# Altium integrated library TI Amplifiers and Linear Operational Amplifier General Purpose.IntLib: 1448 symbols (part 13 of 51)
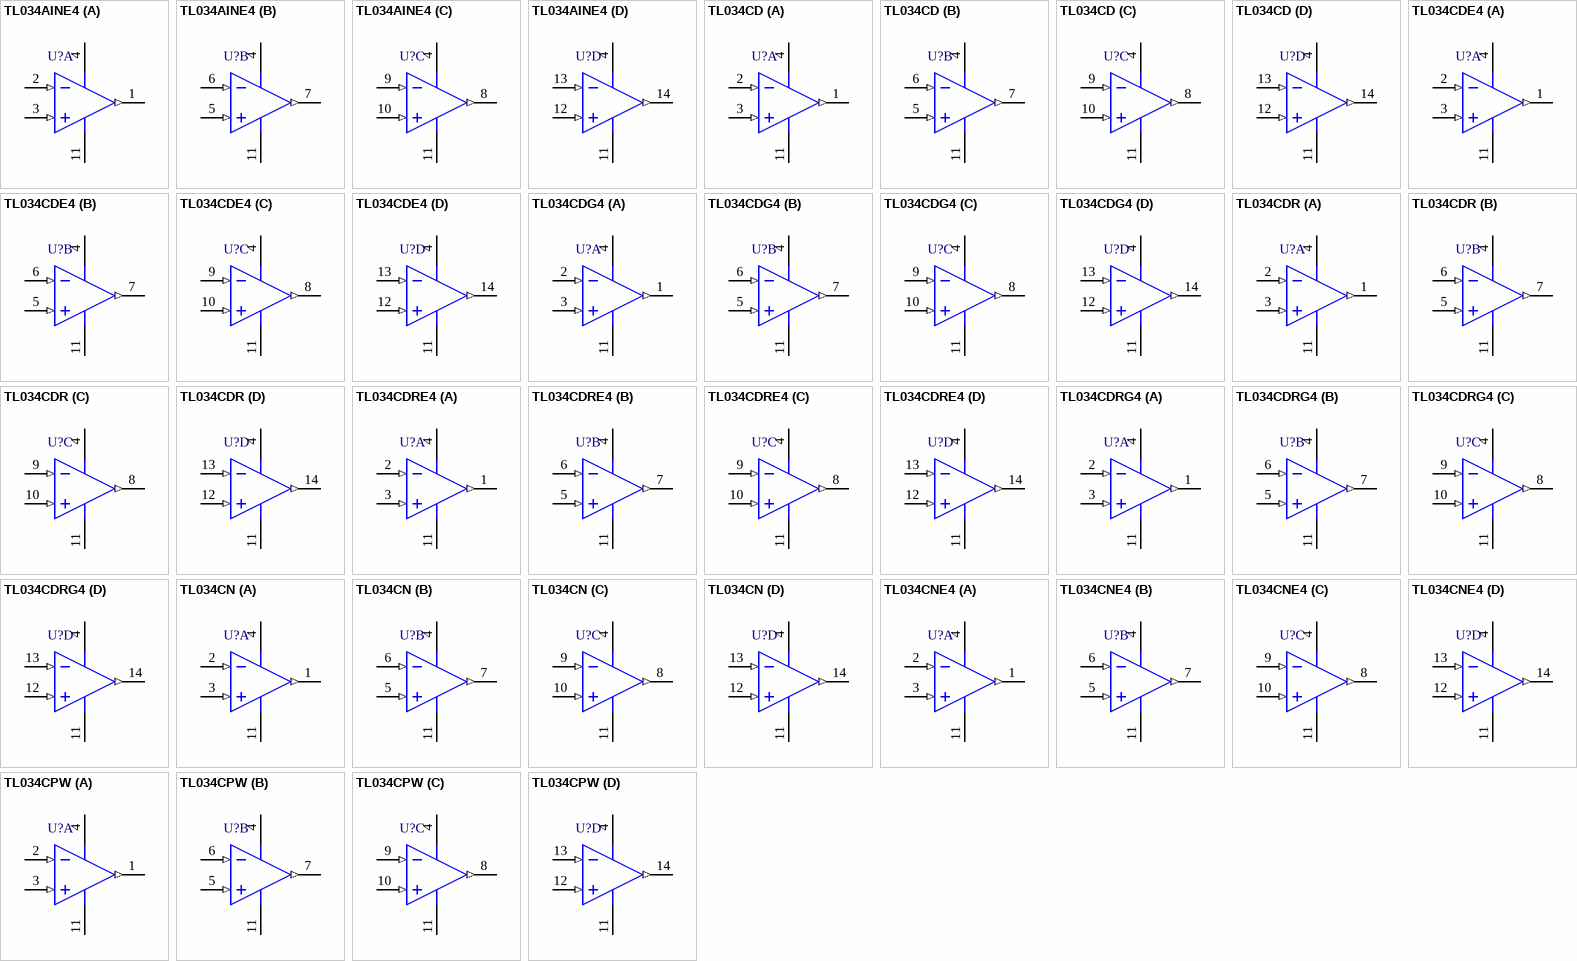
[diagram p103: symbols TL034AINE4 to TL034CPW]

## TL034AINE4
designator U?
Enhanced JFET Low-Power Low-Offset Quad Operational Amplifier, 10 to 30 V, -40 to 85 degC, 14-pin DIP (N14), Pb-Free (RoHS); Manufacturer: Texas Instruments; PartNumber: TL034AINE4; CMRR(Min)(dB): 75; GBW(Typ)(MHz): 1.1; IIB(Max)(pA): 200; Iq per channel(Max)(mA): 0.28; Number of Channels: 4; Offset Drift(Typ)(uV/C): 12; Rating: Catalog; Slew Rate(Typ)(V/us): 5.1; Sub Family: General Purpose Amplifier, High Supply Voltage Amplifier (>=30V), Low Power Amp (<=500uA); Total Supply Voltage(Max)(+5V is 5, +/-5V is 10): 30; Total Supply Voltage(Min)(+5V is 5, +/-5V is 10): 10; Vio (25C)(Max)(mV): 1.5; Vn at 1kHz(Typ)(nV/rtHz): 43; DatasheetVersion: SLOS180C; PackageVersion: 4040049/E, 12/2002; PackageReference: N14; PackageDescription: 14-Pin Plastic In-Line, Body 19.305 x 6.35 mm, Pitch 2.54 mm; Supplier 1: Digi-Key; Supplier Part Number 1: TL034AINE4-ND; Supplier 2: Mouser; Supplier Part Number 2: 595-TL034AINE4; Eco-Plan: Pb-Free (RoHS); Mounting Technology: Through Hole; Code_JEDEC: MS-001; ComponentLink1Description: Manufacturer URL; ComponentLink1URL: http://www.ti.com/; ComponentLink2Description: Datasheet; ComponentLink2URL: http://www.ti.com/lit/ds/symlink/tl034a.pdf; ComponentLink3Description: Package Specification; ComponentLink3URL: http://www.ti.com/lit/ml/mpdi002c/mpdi002c.pdf
footprint TI-N14 (DIP, 14-Leads, Body 19.305x6.35 mm, Pitch 2.54 mm)
pins on every part: 4 VCC+ (power), 11 VCC- (power)
part A pins: 1 OUT1 (out), 2 IN1- (in), 3 IN1+ (in)
part B pins: 5 IN2+ (in), 6 IN2- (in), 7 OUT2 (out)
part C pins: 8 OUT3 (out), 9 IN3- (in), 10 IN3+ (in)
part D pins: 12 IN4+ (in), 13 IN4- (in), 14 OUT4 (out)

## TL034CD
designator U?
Quad Enhanced JFET Low-Power Precision Operational Amplifier, 10 to 30 V, 0 to 70 degC, 14-pin SOIC (D14), Green (RoHS & no Sb/Br); Manufacturer: Texas Instruments; PartNumber: TL034CD; CMRR(Min)(dB): 75; GBW(Typ)(MHz): 1.1; IIB(Max)(pA): 200; Iq per channel(Max)(mA): 0.28; Number of Channels: 4; Offset Drift(Typ)(uV/C): 12; Rating: Military; Slew Rate(Typ)(V/us): 5.1; Sub Family: General Purpose Amplifier, High Supply Voltage Amplifier (>=30V), Low Power Amp (<=500uA); Total Supply Voltage(Max)(+5V is 5, +/-5V is 10): 30; Total Supply Voltage(Min)(+5V is 5, +/-5V is 10): 10; Vn at 1kHz(Typ)(nV/rtHz): 43; DatasheetVersion: SLOS180C; PackageVersion: 4040047-5/M, 06/2011; PackageReference: D14; PackageDescription: 14-Pin Plastic Small Outline, Body 8.65 x 3.90 mm, Pitch 1.27 mm; Supplier 1: Digi-Key; Supplier Part Number 1: 296-7154-5-ND; Supplier 2: Farnell; Supplier Part Number 2: 1103007; Supplier 3: Newark; Supplier Part Number 3: 36K2066; Supplier 4: Mouser; Supplier Part Number 4: 595-TL034CD; Eco-Plan: Green (RoHS & no Sb/Br); Vio (25C)(Max)(mV): 4; Mounting Technology: Surface Mount; Code_JEDEC: MS-012; ComponentLink1Description: Manufacturer URL; ComponentLink1URL: http://www.ti.com/; ComponentLink2Description: Datasheet; ComponentLink2URL: http://www.ti.com/lit/ds/symlink/tl034.pdf; ComponentLink3Description: Package Specification; ComponentLink3URL: http://www.ti.com/lit/ml/mpds177g/mpds177g.pdf
footprint TI-D14_N (SOIC, 14-Leads, Body 8.65x3.90mm, Pitch 1.27mm, IPC Medium Density)
footprint TI-D14_L (SOIC, 14-Leads, Body 8.65x3.90mm, Pitch 1.27mm, IPC High Density)
footprint TI-D14_M (SOIC, 14-Leads, Body 8.65x3.90mm, Pitch 1.27mm, IPC Low Density)
pins on every part: 4 VCC+ (power), 11 VCC- (power)
part A pins: 1 OUT1 (out), 2 IN1- (in), 3 IN1+ (in)
part B pins: 5 IN2+ (in), 6 IN2- (in), 7 OUT2 (out)
part C pins: 8 OUT3 (out), 9 IN3- (in), 10 IN3+ (in)
part D pins: 12 IN4+ (in), 13 IN4- (in), 14 OUT4 (out)

## TL034CDE4
designator U?
Quad Enhanced JFET Low-Power Precision Operational Amplifier, 10 to 30 V, 0 to 70 degC, 14-pin SOIC (D14), Green (RoHS & no Sb/Br); Manufacturer: Texas Instruments; PartNumber: TL034CDE4; CMRR(Min)(dB): 75; GBW(Typ)(MHz): 1.1; IIB(Max)(pA): 200; Iq per channel(Max)(mA): 0.28; Number of Channels: 4; Offset Drift(Typ)(uV/C): 12; Rating: Military; Slew Rate(Typ)(V/us): 5.1; Sub Family: General Purpose Amplifier, High Supply Voltage Amplifier (>=30V), Low Power Amp (<=500uA); Total Supply Voltage(Max)(+5V is 5, +/-5V is 10): 30; Total Supply Voltage(Min)(+5V is 5, +/-5V is 10): 10; Vn at 1kHz(Typ)(nV/rtHz): 43; DatasheetVersion: SLOS180C; PackageVersion: 4040047-5/M, 06/2011; PackageReference: D14; PackageDescription: 14-Pin Plastic Small Outline, Body 8.65 x 3.90 mm, Pitch 1.27 mm; Supplier 1: Digi-Key; Supplier Part Number 1: TL034CDE4-ND; Supplier 2: Mouser; Supplier Part Number 2: 595-TL034CDE4; Eco-Plan: Green (RoHS & no Sb/Br); Vio (25C)(Max)(mV): 4; Mounting Technology: Surface Mount; Code_JEDEC: MS-012; ComponentLink1Description: Manufacturer URL; ComponentLink1URL: http://www.ti.com/; ComponentLink2Description: Datasheet; ComponentLink2URL: http://www.ti.com/lit/ds/symlink/tl034.pdf; ComponentLink3Description: Package Specification; ComponentLink3URL: http://www.ti.com/lit/ml/mpds177g/mpds177g.pdf
footprint TI-D14_N (SOIC, 14-Leads, Body 8.65x3.90mm, Pitch 1.27mm, IPC Medium Density)
footprint TI-D14_L (SOIC, 14-Leads, Body 8.65x3.90mm, Pitch 1.27mm, IPC High Density)
footprint TI-D14_M (SOIC, 14-Leads, Body 8.65x3.90mm, Pitch 1.27mm, IPC Low Density)
pins on every part: 4 VCC+ (power), 11 VCC- (power)
part A pins: 1 OUT1 (out), 2 IN1- (in), 3 IN1+ (in)
part B pins: 5 IN2+ (in), 6 IN2- (in), 7 OUT2 (out)
part C pins: 8 OUT3 (out), 9 IN3- (in), 10 IN3+ (in)
part D pins: 12 IN4+ (in), 13 IN4- (in), 14 OUT4 (out)

## TL034CDG4
designator U?
Quad Enhanced JFET Low-Power Precision Operational Amplifier, 10 to 30 V, 0 to 70 degC, 14-pin SOIC (D14), Green (RoHS & no Sb/Br); Manufacturer: Texas Instruments; PartNumber: TL034CDG4; CMRR(Min)(dB): 75; GBW(Typ)(MHz): 1.1; IIB(Max)(pA): 200; Iq per channel(Max)(mA): 0.28; Number of Channels: 4; Offset Drift(Typ)(uV/C): 12; Rating: Military; Slew Rate(Typ)(V/us): 5.1; Sub Family: General Purpose Amplifier, High Supply Voltage Amplifier (>=30V), Low Power Amp (<=500uA); Total Supply Voltage(Max)(+5V is 5, +/-5V is 10): 30; Total Supply Voltage(Min)(+5V is 5, +/-5V is 10): 10; Vn at 1kHz(Typ)(nV/rtHz): 43; DatasheetVersion: SLOS180C; PackageVersion: 4040047-5/M, 06/2011; PackageReference: D14; PackageDescription: 14-Pin Plastic Small Outline, Body 8.65 x 3.90 mm, Pitch 1.27 mm; Supplier 1: Digi-Key; Supplier Part Number 1: TL034CDG4-ND; Supplier 2: Mouser; Supplier Part Number 2: 595-TL034CDG4; Eco-Plan: Green (RoHS & no Sb/Br); Vio (25C)(Max)(mV): 4; Mounting Technology: Surface Mount; Code_JEDEC: MS-012; ComponentLink1Description: Manufacturer URL; ComponentLink1URL: http://www.ti.com/; ComponentLink2Description: Datasheet; ComponentLink2URL: http://www.ti.com/lit/ds/symlink/tl034.pdf; ComponentLink3Description: Package Specification; ComponentLink3URL: http://www.ti.com/lit/ml/mpds177g/mpds177g.pdf
footprint TI-D14_N (SOIC, 14-Leads, Body 8.65x3.90mm, Pitch 1.27mm, IPC Medium Density)
footprint TI-D14_L (SOIC, 14-Leads, Body 8.65x3.90mm, Pitch 1.27mm, IPC High Density)
footprint TI-D14_M (SOIC, 14-Leads, Body 8.65x3.90mm, Pitch 1.27mm, IPC Low Density)
pins on every part: 4 VCC+ (power), 11 VCC- (power)
part A pins: 1 OUT1 (out), 2 IN1- (in), 3 IN1+ (in)
part B pins: 5 IN2+ (in), 6 IN2- (in), 7 OUT2 (out)
part C pins: 8 OUT3 (out), 9 IN3- (in), 10 IN3+ (in)
part D pins: 12 IN4+ (in), 13 IN4- (in), 14 OUT4 (out)

## TL034CDR
designator U?
Quad Enhanced JFET Low-Power Precision Operational Amplifier, 10 to 30 V, 0 to 70 degC, 14-pin SOIC (D14), Green (RoHS & no Sb/Br); Manufacturer: Texas Instruments; PartNumber: TL034CDR; CMRR(Min)(dB): 75; GBW(Typ)(MHz): 1.1; IIB(Max)(pA): 200; Iq per channel(Max)(mA): 0.28; Number of Channels: 4; Offset Drift(Typ)(uV/C): 12; Rating: Military; Slew Rate(Typ)(V/us): 5.1; Sub Family: General Purpose Amplifier, High Supply Voltage Amplifier (>=30V), Low Power Amp (<=500uA); Total Supply Voltage(Max)(+5V is 5, +/-5V is 10): 30; Total Supply Voltage(Min)(+5V is 5, +/-5V is 10): 10; Vn at 1kHz(Typ)(nV/rtHz): 43; DatasheetVersion: SLOS180C; PackageVersion: 4040047-5/M, 06/2011; PackageReference: D14; PackageDescription: 14-Pin Plastic Small Outline, Body 8.65 x 3.90 mm, Pitch 1.27 mm; Supplier 1: Digi-Key; Supplier Part Number 1: 296-14982-2-ND; Supplier 2: Digi-Key; Supplier Part Number 2: 296-14982-1-ND; Supplier 3: Digi-Key; Supplier Part Number 3: 296-14982-6-ND; Supplier 4: Mouser; Supplier Part Number 4: 595-TL034CDR; Eco-Plan: Green (RoHS & no Sb/Br); Vio (25C)(Max)(mV): 4; Mounting Technology: Surface Mount; Code_JEDEC: MS-012; ComponentLink1Description: Manufacturer URL; ComponentLink1URL: http://www.ti.com/; ComponentLink2Description: Datasheet; ComponentLink2URL: http://www.ti.com/lit/ds/symlink/tl034.pdf; ComponentLink3Description: Package Specification; ComponentLink3URL: http://www.ti.com/lit/ml/mpds177g/mpds177g.pdf
footprint TI-D14_N (SOIC, 14-Leads, Body 8.65x3.90mm, Pitch 1.27mm, IPC Medium Density)
footprint TI-D14_L (SOIC, 14-Leads, Body 8.65x3.90mm, Pitch 1.27mm, IPC High Density)
footprint TI-D14_M (SOIC, 14-Leads, Body 8.65x3.90mm, Pitch 1.27mm, IPC Low Density)
pins on every part: 4 VCC+ (power), 11 VCC- (power)
part A pins: 1 OUT1 (out), 2 IN1- (in), 3 IN1+ (in)
part B pins: 5 IN2+ (in), 6 IN2- (in), 7 OUT2 (out)
part C pins: 8 OUT3 (out), 9 IN3- (in), 10 IN3+ (in)
part D pins: 12 IN4+ (in), 13 IN4- (in), 14 OUT4 (out)

## TL034CDRE4
designator U?
Quad Enhanced JFET Low-Power Precision Operational Amplifier, 10 to 30 V, 0 to 70 degC, 14-pin SOIC (D14), Green (RoHS & no Sb/Br); Manufacturer: Texas Instruments; PartNumber: TL034CDRE4; CMRR(Min)(dB): 75; GBW(Typ)(MHz): 1.1; IIB(Max)(pA): 200; Iq per channel(Max)(mA): 0.28; Number of Channels: 4; Offset Drift(Typ)(uV/C): 12; Rating: Military; Slew Rate(Typ)(V/us): 5.1; Sub Family: General Purpose Amplifier, High Supply Voltage Amplifier (>=30V), Low Power Amp (<=500uA); Total Supply Voltage(Max)(+5V is 5, +/-5V is 10): 30; Total Supply Voltage(Min)(+5V is 5, +/-5V is 10): 10; Vn at 1kHz(Typ)(nV/rtHz): 43; DatasheetVersion: SLOS180C; PackageVersion: 4040047-5/M, 06/2011; PackageReference: D14; PackageDescription: 14-Pin Plastic Small Outline, Body 8.65 x 3.90 mm, Pitch 1.27 mm; Supplier 1: Digi-Key; Supplier Part Number 1: TL034CDRE4-ND; Supplier 2: Mouser; Supplier Part Number 2: 595-TL034CDRE4; Eco-Plan: Green (RoHS & no Sb/Br); Vio (25C)(Max)(mV): 4; Mounting Technology: Surface Mount; Code_JEDEC: MS-012; ComponentLink1Description: Manufacturer URL; ComponentLink1URL: http://www.ti.com/; ComponentLink2Description: Datasheet; ComponentLink2URL: http://www.ti.com/lit/ds/symlink/tl034.pdf; ComponentLink3Description: Package Specification; ComponentLink3URL: http://www.ti.com/lit/ml/mpds177g/mpds177g.pdf
footprint TI-D14_N (SOIC, 14-Leads, Body 8.65x3.90mm, Pitch 1.27mm, IPC Medium Density)
footprint TI-D14_L (SOIC, 14-Leads, Body 8.65x3.90mm, Pitch 1.27mm, IPC High Density)
footprint TI-D14_M (SOIC, 14-Leads, Body 8.65x3.90mm, Pitch 1.27mm, IPC Low Density)
pins on every part: 4 VCC+ (power), 11 VCC- (power)
part A pins: 1 OUT1 (out), 2 IN1- (in), 3 IN1+ (in)
part B pins: 5 IN2+ (in), 6 IN2- (in), 7 OUT2 (out)
part C pins: 8 OUT3 (out), 9 IN3- (in), 10 IN3+ (in)
part D pins: 12 IN4+ (in), 13 IN4- (in), 14 OUT4 (out)

## TL034CDRG4
designator U?
Quad Enhanced JFET Low-Power Precision Operational Amplifier, 10 to 30 V, 0 to 70 degC, 14-pin SOIC (D14), Green (RoHS & no Sb/Br); Manufacturer: Texas Instruments; PartNumber: TL034CDRG4; CMRR(Min)(dB): 75; GBW(Typ)(MHz): 1.1; IIB(Max)(pA): 200; Iq per channel(Max)(mA): 0.28; Number of Channels: 4; Offset Drift(Typ)(uV/C): 12; Rating: Military; Slew Rate(Typ)(V/us): 5.1; Sub Family: General Purpose Amplifier, High Supply Voltage Amplifier (>=30V), Low Power Amp (<=500uA); Total Supply Voltage(Max)(+5V is 5, +/-5V is 10): 30; Total Supply Voltage(Min)(+5V is 5, +/-5V is 10): 10; Vn at 1kHz(Typ)(nV/rtHz): 43; DatasheetVersion: SLOS180C; PackageVersion: 4040047-5/M, 06/2011; PackageReference: D14; PackageDescription: 14-Pin Plastic Small Outline, Body 8.65 x 3.90 mm, Pitch 1.27 mm; Supplier 1: Digi-Key; Supplier Part Number 1: TL034CDRG4-ND; Supplier 2: Mouser; Supplier Part Number 2: 595-TL034CDRG4; Eco-Plan: Green (RoHS & no Sb/Br); Vio (25C)(Max)(mV): 4; Mounting Technology: Surface Mount; Code_JEDEC: MS-012; ComponentLink1Description: Manufacturer URL; ComponentLink1URL: http://www.ti.com/; ComponentLink2Description: Datasheet; ComponentLink2URL: http://www.ti.com/lit/ds/symlink/tl034.pdf; ComponentLink3Description: Package Specification; ComponentLink3URL: http://www.ti.com/lit/ml/mpds177g/mpds177g.pdf
footprint TI-D14_N (SOIC, 14-Leads, Body 8.65x3.90mm, Pitch 1.27mm, IPC Medium Density)
footprint TI-D14_L (SOIC, 14-Leads, Body 8.65x3.90mm, Pitch 1.27mm, IPC High Density)
footprint TI-D14_M (SOIC, 14-Leads, Body 8.65x3.90mm, Pitch 1.27mm, IPC Low Density)
pins on every part: 4 VCC+ (power), 11 VCC- (power)
part A pins: 1 OUT1 (out), 2 IN1- (in), 3 IN1+ (in)
part B pins: 5 IN2+ (in), 6 IN2- (in), 7 OUT2 (out)
part C pins: 8 OUT3 (out), 9 IN3- (in), 10 IN3+ (in)
part D pins: 12 IN4+ (in), 13 IN4- (in), 14 OUT4 (out)

## TL034CN
designator U?
Quad Enhanced JFET Low-Power Precision Operational Amplifier, 10 to 30 V, 0 to 70 degC, 14-pin DIP (N14), Pb-Free (RoHS); Manufacturer: Texas Instruments; PartNumber: TL034CN; CMRR(Min)(dB): 75; GBW(Typ)(MHz): 1.1; IIB(Max)(pA): 200; Iq per channel(Max)(mA): 0.28; Number of Channels: 4; Offset Drift(Typ)(uV/C): 12; Rating: Military; Slew Rate(Typ)(V/us): 5.1; Sub Family: General Purpose Amplifier, High Supply Voltage Amplifier (>=30V), Low Power Amp (<=500uA); Total Supply Voltage(Max)(+5V is 5, +/-5V is 10): 30; Total Supply Voltage(Min)(+5V is 5, +/-5V is 10): 10; Vn at 1kHz(Typ)(nV/rtHz): 43; DatasheetVersion: SLOS180C; PackageVersion: 4040049/E, 12/2002; PackageReference: N14; PackageDescription: 14-Pin Plastic In-Line, Body 19.305 x 6.35 mm, Pitch 2.54 mm; Supplier 1: Digi-Key; Supplier Part Number 1: 296-7155-5-ND; Supplier 2: Farnell; Supplier Part Number 2: 1103008; Supplier 3: Newark; Supplier Part Number 3: 24M8326; Supplier 4: Newark; Supplier Part Number 4: 67K1269; Supplier 5: Mouser; Supplier Part Number 5: 595-TL034CN; Eco-Plan: Pb-Free (RoHS); Vio (25C)(Max)(mV): 4; Mounting Technology: Through Hole; Code_JEDEC: MS-001; ComponentLink1Description: Manufacturer URL; ComponentLink1URL: http://www.ti.com/; ComponentLink2Description: Datasheet; ComponentLink2URL: http://www.ti.com/lit/ds/symlink/tl034.pdf; ComponentLink3Description: Package Specification; ComponentLink3URL: http://www.ti.com/lit/ml/mpdi002c/mpdi002c.pdf
footprint TI-N14 (DIP, 14-Leads, Body 19.305x6.35 mm, Pitch 2.54 mm)
pins on every part: 4 VCC+ (power), 11 VCC- (power)
part A pins: 1 OUT1 (out), 2 IN1- (in), 3 IN1+ (in)
part B pins: 5 IN2+ (in), 6 IN2- (in), 7 OUT2 (out)
part C pins: 8 OUT3 (out), 9 IN3- (in), 10 IN3+ (in)
part D pins: 12 IN4+ (in), 13 IN4- (in), 14 OUT4 (out)

## TL034CNE4
designator U?
Quad Enhanced JFET Low-Power Precision Operational Amplifier, 10 to 30 V, 0 to 70 degC, 14-pin DIP (N14), Pb-Free (RoHS); Manufacturer: Texas Instruments; PartNumber: TL034CNE4; CMRR(Min)(dB): 75; GBW(Typ)(MHz): 1.1; IIB(Max)(pA): 200; Iq per channel(Max)(mA): 0.28; Number of Channels: 4; Offset Drift(Typ)(uV/C): 12; Rating: Military; Slew Rate(Typ)(V/us): 5.1; Sub Family: General Purpose Amplifier, High Supply Voltage Amplifier (>=30V), Low Power Amp (<=500uA); Total Supply Voltage(Max)(+5V is 5, +/-5V is 10): 30; Total Supply Voltage(Min)(+5V is 5, +/-5V is 10): 10; Vn at 1kHz(Typ)(nV/rtHz): 43; DatasheetVersion: SLOS180C; PackageVersion: 4040049/E, 12/2002; PackageReference: N14; PackageDescription: 14-Pin Plastic In-Line, Body 19.305 x 6.35 mm, Pitch 2.54 mm; Supplier 1: Digi-Key; Supplier Part Number 1: TL034CNE4-ND; Supplier 2: Mouser; Supplier Part Number 2: 595-TL034CNE4; Eco-Plan: Pb-Free (RoHS); Vio (25C)(Max)(mV): 4; Mounting Technology: Through Hole; Code_JEDEC: MS-001; ComponentLink1Description: Manufacturer URL; ComponentLink1URL: http://www.ti.com/; ComponentLink2Description: Datasheet; ComponentLink2URL: http://www.ti.com/lit/ds/symlink/tl034.pdf; ComponentLink3Description: Package Specification; ComponentLink3URL: http://www.ti.com/lit/ml/mpdi002c/mpdi002c.pdf
footprint TI-N14 (DIP, 14-Leads, Body 19.305x6.35 mm, Pitch 2.54 mm)
pins on every part: 4 VCC+ (power), 11 VCC- (power)
part A pins: 1 OUT1 (out), 2 IN1- (in), 3 IN1+ (in)
part B pins: 5 IN2+ (in), 6 IN2- (in), 7 OUT2 (out)
part C pins: 8 OUT3 (out), 9 IN3- (in), 10 IN3+ (in)
part D pins: 12 IN4+ (in), 13 IN4- (in), 14 OUT4 (out)

## TL034CPW
designator U?
Quad Enhanced JFET Low-Power Precision Operational Amplifier, 10 to 30 V, 0 to 70 degC, 14-pin SOP (PW14), Green (RoHS & no Sb/Br); Manufacturer: Texas Instruments; PartNumber: TL034CPW; CMRR(Min)(dB): 75; GBW(Typ)(MHz): 1.1; IIB(Max)(pA): 200; Iq per channel(Max)(mA): 0.28; Number of Channels: 4; Offset Drift(Typ)(uV/C): 12; Rating: Military; Slew Rate(Typ)(V/us): 5.1; Sub Family: General Purpose Amplifier, High Supply Voltage Amplifier (>=30V), Low Power Amp (<=500uA); Total Supply Voltage(Max)(+5V is 5, +/-5V is 10): 30; Total Supply Voltage(Min)(+5V is 5, +/-5V is 10): 10; Vn at 1kHz(Typ)(nV/rtHz): 43; DatasheetVersion: SLOS180C; PackageVersion: 4040064-3/G, 02/2011; PackageReference: PW14; PackageDescription: 14-Pin Plastic Small Outline, Body 5 x 4.4 mm, Pitch 0.65 mm; Supplier 1: Digi-Key; Supplier Part Number 1: 296-23295-5-ND; Supplier 2: Newark; Supplier Part Number 2: 02H5499; Supplier 3: Mouser; Supplier Part Number 3: 595-TL034CPW; Eco-Plan: Green (RoHS & no Sb/Br); Vio (25C)(Max)(mV): 4; Mounting Technology: Surface Mount; Code_JEDEC: MO-153; ComponentLink1Description: Manufacturer URL; ComponentLink1URL: http://www.ti.com/; ComponentLink2Description: Datasheet; ComponentLink2URL: http://www.ti.com/lit/ds/symlink/tl034.pdf; ComponentLink3Description: Package Specification; ComponentLink3URL: http://www.ti.com/litv/pdf/mpds360
footprint TI-PW14_N (SOP, 14-Leads, Body 5x4.4mm, Pitch 0.65mm, IPC Medium Density)
footprint TI-PW14_L (SOP, 14-Leads, Body 5x4.4mm, Pitch 0.65mm, IPC High Density)
footprint TI-PW14_M (SOP, 14-Leads, Body 5x4.4mm, Pitch 0.65mm, IPC Low Density)
pins on every part: 4 VCC+ (power), 11 VCC- (power)
part A pins: 1 OUT1 (out), 2 IN1- (in), 3 IN1+ (in)
part B pins: 5 IN2+ (in), 6 IN2- (in), 7 OUT2 (out)
part C pins: 8 OUT3 (out), 9 IN3- (in), 10 IN3+ (in)
part D pins: 12 IN4+ (in), 13 IN4- (in), 14 OUT4 (out)

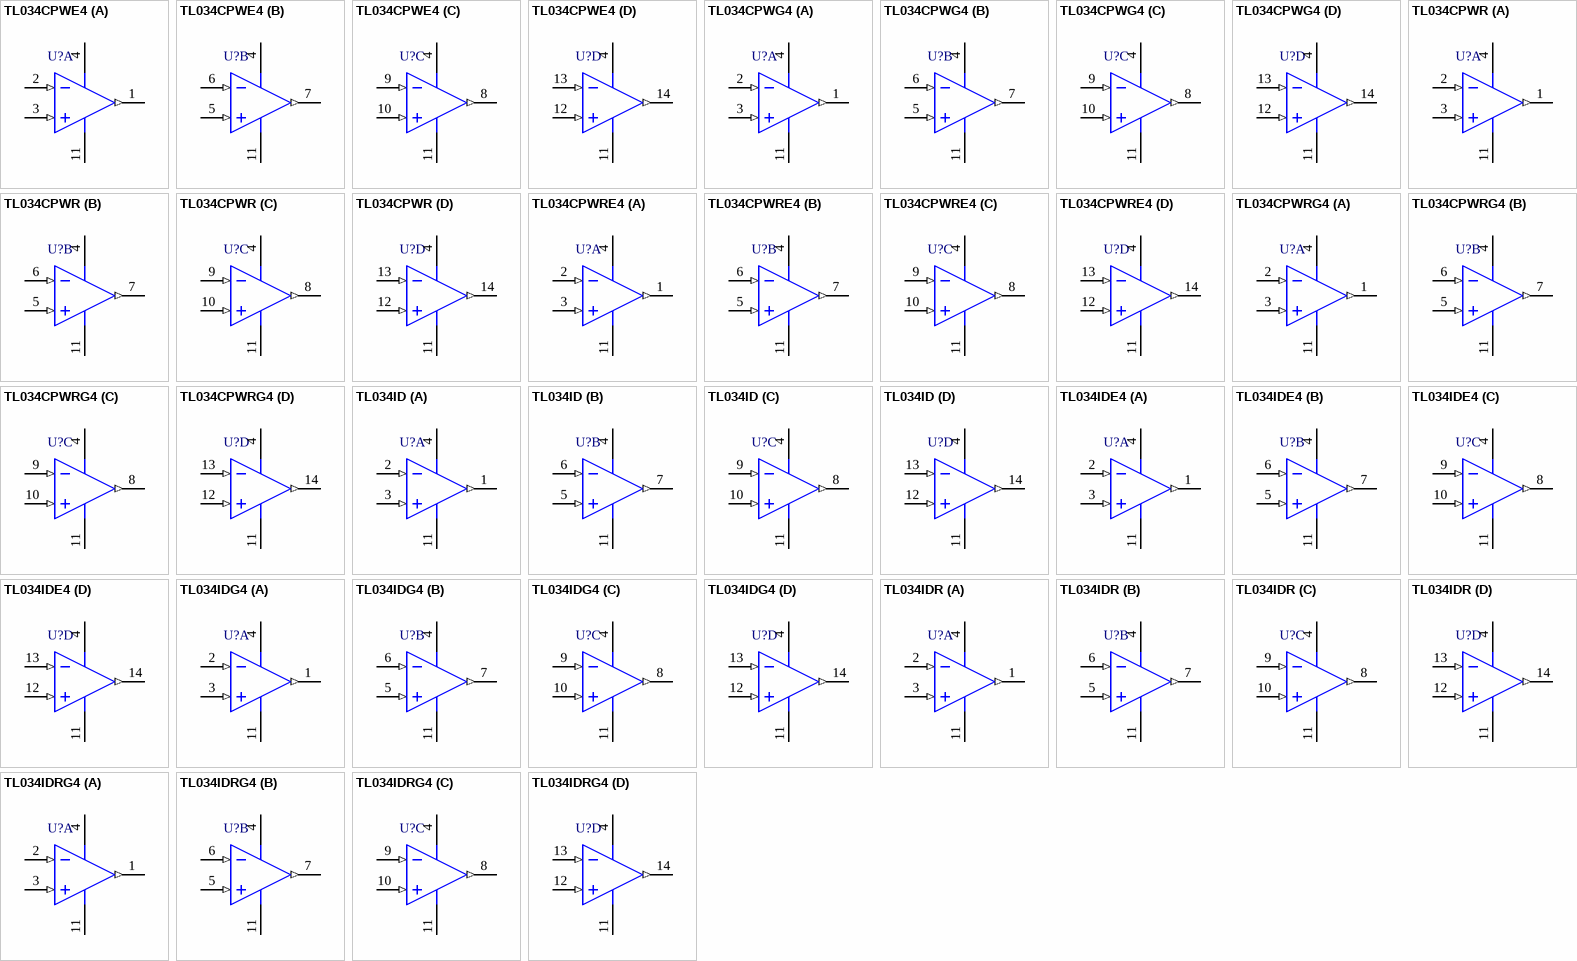
[diagram p21: symbols TL034CPWE4 to TL034IDRG4]

## TL034CPWE4
designator U?
Quad Enhanced JFET Low-Power Precision Operational Amplifier, 10 to 30 V, 0 to 70 degC, 14-pin SOP (PW14), Green (RoHS & no Sb/Br); Manufacturer: Texas Instruments; PartNumber: TL034CPWE4; CMRR(Min)(dB): 75; GBW(Typ)(MHz): 1.1; IIB(Max)(pA): 200; Iq per channel(Max)(mA): 0.28; Number of Channels: 4; Offset Drift(Typ)(uV/C): 12; Rating: Military; Slew Rate(Typ)(V/us): 5.1; Sub Family: General Purpose Amplifier, High Supply Voltage Amplifier (>=30V), Low Power Amp (<=500uA); Total Supply Voltage(Max)(+5V is 5, +/-5V is 10): 30; Total Supply Voltage(Min)(+5V is 5, +/-5V is 10): 10; Vn at 1kHz(Typ)(nV/rtHz): 43; DatasheetVersion: SLOS180C; PackageVersion: 4040064-3/G, 02/2011; PackageReference: PW14; PackageDescription: 14-Pin Plastic Small Outline, Body 5 x 4.4 mm, Pitch 0.65 mm; Supplier 1: Digi-Key; Supplier Part Number 1: TL034CPWE4-ND; Supplier 2: Mouser; Supplier Part Number 2: 595-TL034CPWE4; Eco-Plan: Green (RoHS & no Sb/Br); Vio (25C)(Max)(mV): 4; Mounting Technology: Surface Mount; Code_JEDEC: MO-153; ComponentLink1Description: Manufacturer URL; ComponentLink1URL: http://www.ti.com/; ComponentLink2Description: Datasheet; ComponentLink2URL: http://www.ti.com/lit/ds/symlink/tl034.pdf; ComponentLink3Description: Package Specification; ComponentLink3URL: http://www.ti.com/litv/pdf/mpds360
footprint TI-PW14_N (SOP, 14-Leads, Body 5x4.4mm, Pitch 0.65mm, IPC Medium Density)
footprint TI-PW14_L (SOP, 14-Leads, Body 5x4.4mm, Pitch 0.65mm, IPC High Density)
footprint TI-PW14_M (SOP, 14-Leads, Body 5x4.4mm, Pitch 0.65mm, IPC Low Density)
pins on every part: 4 VCC+ (power), 11 VCC- (power)
part A pins: 1 OUT1 (out), 2 IN1- (in), 3 IN1+ (in)
part B pins: 5 IN2+ (in), 6 IN2- (in), 7 OUT2 (out)
part C pins: 8 OUT3 (out), 9 IN3- (in), 10 IN3+ (in)
part D pins: 12 IN4+ (in), 13 IN4- (in), 14 OUT4 (out)

## TL034CPWG4
designator U?
Quad Enhanced JFET Low-Power Precision Operational Amplifier, 10 to 30 V, 0 to 70 degC, 14-pin SOP (PW14), Green (RoHS & no Sb/Br); Manufacturer: Texas Instruments; PartNumber: TL034CPWG4; CMRR(Min)(dB): 75; GBW(Typ)(MHz): 1.1; IIB(Max)(pA): 200; Iq per channel(Max)(mA): 0.28; Number of Channels: 4; Offset Drift(Typ)(uV/C): 12; Rating: Military; Slew Rate(Typ)(V/us): 5.1; Sub Family: General Purpose Amplifier, High Supply Voltage Amplifier (>=30V), Low Power Amp (<=500uA); Total Supply Voltage(Max)(+5V is 5, +/-5V is 10): 30; Total Supply Voltage(Min)(+5V is 5, +/-5V is 10): 10; Vn at 1kHz(Typ)(nV/rtHz): 43; DatasheetVersion: SLOS180C; PackageVersion: 4040064-3/G, 02/2011; PackageReference: PW14; PackageDescription: 14-Pin Plastic Small Outline, Body 5 x 4.4 mm, Pitch 0.65 mm; Supplier 1: Digi-Key; Supplier Part Number 1: TL034CPWG4-ND; Supplier 2: Mouser; Supplier Part Number 2: 595-TL034CPWG4; Eco-Plan: Green (RoHS & no Sb/Br); Vio (25C)(Max)(mV): 4; Mounting Technology: Surface Mount; Code_JEDEC: MO-153; ComponentLink1Description: Manufacturer URL; ComponentLink1URL: http://www.ti.com/; ComponentLink2Description: Datasheet; ComponentLink2URL: http://www.ti.com/lit/ds/symlink/tl034.pdf; ComponentLink3Description: Package Specification; ComponentLink3URL: http://www.ti.com/litv/pdf/mpds360
footprint TI-PW14_N (SOP, 14-Leads, Body 5x4.4mm, Pitch 0.65mm, IPC Medium Density)
footprint TI-PW14_L (SOP, 14-Leads, Body 5x4.4mm, Pitch 0.65mm, IPC High Density)
footprint TI-PW14_M (SOP, 14-Leads, Body 5x4.4mm, Pitch 0.65mm, IPC Low Density)
pins on every part: 4 VCC+ (power), 11 VCC- (power)
part A pins: 1 OUT1 (out), 2 IN1- (in), 3 IN1+ (in)
part B pins: 5 IN2+ (in), 6 IN2- (in), 7 OUT2 (out)
part C pins: 8 OUT3 (out), 9 IN3- (in), 10 IN3+ (in)
part D pins: 12 IN4+ (in), 13 IN4- (in), 14 OUT4 (out)

## TL034CPWR
designator U?
Quad Enhanced JFET Low-Power Precision Operational Amplifier, 10 to 30 V, 0 to 70 degC, 14-pin SOP (PW14), Green (RoHS & no Sb/Br); Manufacturer: Texas Instruments; PartNumber: TL034CPWR; CMRR(Min)(dB): 75; GBW(Typ)(MHz): 1.1; IIB(Max)(pA): 200; Iq per channel(Max)(mA): 0.28; Number of Channels: 4; Offset Drift(Typ)(uV/C): 12; Rating: Military; Slew Rate(Typ)(V/us): 5.1; Sub Family: General Purpose Amplifier, High Supply Voltage Amplifier (>=30V), Low Power Amp (<=500uA); Total Supply Voltage(Max)(+5V is 5, +/-5V is 10): 30; Total Supply Voltage(Min)(+5V is 5, +/-5V is 10): 10; Vn at 1kHz(Typ)(nV/rtHz): 43; DatasheetVersion: SLOS180C; PackageVersion: 4040064-3/G, 02/2011; PackageReference: PW14; PackageDescription: 14-Pin Plastic Small Outline, Body 5 x 4.4 mm, Pitch 0.65 mm; Supplier 1: Digi-Key; Supplier Part Number 1: 296-11815-2-ND; Supplier 2: Digi-Key; Supplier Part Number 2: 296-11815-6-ND; Supplier 3: Mouser; Supplier Part Number 3: 595-TL034CPWR; Eco-Plan: Green (RoHS & no Sb/Br); Vio (25C)(Max)(mV): 4; Mounting Technology: Surface Mount; Code_JEDEC: MO-153; ComponentLink1Description: Manufacturer URL; ComponentLink1URL: http://www.ti.com/; ComponentLink2Description: Datasheet; ComponentLink2URL: http://www.ti.com/lit/ds/symlink/tl034.pdf; ComponentLink3Description: Package Specification; ComponentLink3URL: http://www.ti.com/litv/pdf/mpds360
footprint TI-PW14_N (SOP, 14-Leads, Body 5x4.4mm, Pitch 0.65mm, IPC Medium Density)
footprint TI-PW14_L (SOP, 14-Leads, Body 5x4.4mm, Pitch 0.65mm, IPC High Density)
footprint TI-PW14_M (SOP, 14-Leads, Body 5x4.4mm, Pitch 0.65mm, IPC Low Density)
pins on every part: 4 VCC+ (power), 11 VCC- (power)
part A pins: 1 OUT1 (out), 2 IN1- (in), 3 IN1+ (in)
part B pins: 5 IN2+ (in), 6 IN2- (in), 7 OUT2 (out)
part C pins: 8 OUT3 (out), 9 IN3- (in), 10 IN3+ (in)
part D pins: 12 IN4+ (in), 13 IN4- (in), 14 OUT4 (out)

## TL034CPWRE4
designator U?
Quad Enhanced JFET Low-Power Precision Operational Amplifier, 10 to 30 V, 0 to 70 degC, 14-pin SOP (PW14), Green (RoHS & no Sb/Br); Manufacturer: Texas Instruments; PartNumber: TL034CPWRE4; CMRR(Min)(dB): 75; GBW(Typ)(MHz): 1.1; IIB(Max)(pA): 200; Iq per channel(Max)(mA): 0.28; Number of Channels: 4; Offset Drift(Typ)(uV/C): 12; Rating: Military; Slew Rate(Typ)(V/us): 5.1; Sub Family: General Purpose Amplifier, High Supply Voltage Amplifier (>=30V), Low Power Amp (<=500uA); Total Supply Voltage(Max)(+5V is 5, +/-5V is 10): 30; Total Supply Voltage(Min)(+5V is 5, +/-5V is 10): 10; Vn at 1kHz(Typ)(nV/rtHz): 43; DatasheetVersion: SLOS180C; PackageVersion: 4040064-3/G, 02/2011; PackageReference: PW14; PackageDescription: 14-Pin Plastic Small Outline, Body 5 x 4.4 mm, Pitch 0.65 mm; Supplier 1: Digi-Key; Supplier Part Number 1: TL034CPWRE4-ND; Supplier 2: Mouser; Supplier Part Number 2: 595-TL034CPWRE4; Eco-Plan: Green (RoHS & no Sb/Br); Vio (25C)(Max)(mV): 4; Mounting Technology: Surface Mount; Code_JEDEC: MO-153; ComponentLink1Description: Manufacturer URL; ComponentLink1URL: http://www.ti.com/; ComponentLink2Description: Datasheet; ComponentLink2URL: http://www.ti.com/lit/ds/symlink/tl034.pdf; ComponentLink3Description: Package Specification; ComponentLink3URL: http://www.ti.com/litv/pdf/mpds360
footprint TI-PW14_N (SOP, 14-Leads, Body 5x4.4mm, Pitch 0.65mm, IPC Medium Density)
footprint TI-PW14_L (SOP, 14-Leads, Body 5x4.4mm, Pitch 0.65mm, IPC High Density)
footprint TI-PW14_M (SOP, 14-Leads, Body 5x4.4mm, Pitch 0.65mm, IPC Low Density)
pins on every part: 4 VCC+ (power), 11 VCC- (power)
part A pins: 1 OUT1 (out), 2 IN1- (in), 3 IN1+ (in)
part B pins: 5 IN2+ (in), 6 IN2- (in), 7 OUT2 (out)
part C pins: 8 OUT3 (out), 9 IN3- (in), 10 IN3+ (in)
part D pins: 12 IN4+ (in), 13 IN4- (in), 14 OUT4 (out)

## TL034CPWRG4
designator U?
Quad Enhanced JFET Low-Power Precision Operational Amplifier, 10 to 30 V, 0 to 70 degC, 14-pin SOP (PW14), Green (RoHS & no Sb/Br); Manufacturer: Texas Instruments; PartNumber: TL034CPWRG4; CMRR(Min)(dB): 75; GBW(Typ)(MHz): 1.1; IIB(Max)(pA): 200; Iq per channel(Max)(mA): 0.28; Number of Channels: 4; Offset Drift(Typ)(uV/C): 12; Rating: Military; Slew Rate(Typ)(V/us): 5.1; Sub Family: General Purpose Amplifier, High Supply Voltage Amplifier (>=30V), Low Power Amp (<=500uA); Total Supply Voltage(Max)(+5V is 5, +/-5V is 10): 30; Total Supply Voltage(Min)(+5V is 5, +/-5V is 10): 10; Vn at 1kHz(Typ)(nV/rtHz): 43; DatasheetVersion: SLOS180C; PackageVersion: 4040064-3/G, 02/2011; PackageReference: PW14; PackageDescription: 14-Pin Plastic Small Outline, Body 5 x 4.4 mm, Pitch 0.65 mm; Supplier 1: Digi-Key; Supplier Part Number 1: TL034CPWRG4-ND; Supplier 2: Mouser; Supplier Part Number 2: 595-TL034CPWRG4; Eco-Plan: Green (RoHS & no Sb/Br); Vio (25C)(Max)(mV): 4; Mounting Technology: Surface Mount; Code_JEDEC: MO-153; ComponentLink1Description: Manufacturer URL; ComponentLink1URL: http://www.ti.com/; ComponentLink2Description: Datasheet; ComponentLink2URL: http://www.ti.com/lit/ds/symlink/tl034.pdf; ComponentLink3Description: Package Specification; ComponentLink3URL: http://www.ti.com/litv/pdf/mpds360
footprint TI-PW14_N (SOP, 14-Leads, Body 5x4.4mm, Pitch 0.65mm, IPC Medium Density)
footprint TI-PW14_L (SOP, 14-Leads, Body 5x4.4mm, Pitch 0.65mm, IPC High Density)
footprint TI-PW14_M (SOP, 14-Leads, Body 5x4.4mm, Pitch 0.65mm, IPC Low Density)
pins on every part: 4 VCC+ (power), 11 VCC- (power)
part A pins: 1 OUT1 (out), 2 IN1- (in), 3 IN1+ (in)
part B pins: 5 IN2+ (in), 6 IN2- (in), 7 OUT2 (out)
part C pins: 8 OUT3 (out), 9 IN3- (in), 10 IN3+ (in)
part D pins: 12 IN4+ (in), 13 IN4- (in), 14 OUT4 (out)

## TL034ID
designator U?
Quad Enhanced JFET Low-Power Precision Operational Amplifier, 10 to 30 V, -40 to 85 degC, 14-pin SOIC (D14), Green (RoHS & no Sb/Br); Manufacturer: Texas Instruments; PartNumber: TL034ID; CMRR(Min)(dB): 75; GBW(Typ)(MHz): 1.1; IIB(Max)(pA): 200; Iq per channel(Max)(mA): 0.28; Number of Channels: 4; Offset Drift(Typ)(uV/C): 12; Rating: Military; Slew Rate(Typ)(V/us): 5.1; Sub Family: General Purpose Amplifier, High Supply Voltage Amplifier (>=30V), Low Power Amp (<=500uA); Total Supply Voltage(Max)(+5V is 5, +/-5V is 10): 30; Total Supply Voltage(Min)(+5V is 5, +/-5V is 10): 10; Vn at 1kHz(Typ)(nV/rtHz): 43; DatasheetVersion: SLOS180C; PackageVersion: 4040047-5/M, 06/2011; PackageReference: D14; PackageDescription: 14-Pin Plastic Small Outline, Body 8.65 x 3.90 mm, Pitch 1.27 mm; Supplier 1: Digi-Key; Supplier Part Number 1: 296-7157-5-ND; Supplier 2: Farnell; Supplier Part Number 2: 1575667; Supplier 3: Newark; Supplier Part Number 3: 76C9045; Supplier 4: Mouser; Supplier Part Number 4: 595-TL034ID; Eco-Plan: Green (RoHS & no Sb/Br); Vio (25C)(Max)(mV): 4; Mounting Technology: Surface Mount; Code_JEDEC: MS-012; ComponentLink1Description: Manufacturer URL; ComponentLink1URL: http://www.ti.com/; ComponentLink2Description: Datasheet; ComponentLink2URL: http://www.ti.com/lit/ds/symlink/tl034.pdf; ComponentLink3Description: Package Specification; ComponentLink3URL: http://www.ti.com/lit/ml/mpds177g/mpds177g.pdf
footprint TI-D14_N (SOIC, 14-Leads, Body 8.65x3.90mm, Pitch 1.27mm, IPC Medium Density)
footprint TI-D14_L (SOIC, 14-Leads, Body 8.65x3.90mm, Pitch 1.27mm, IPC High Density)
footprint TI-D14_M (SOIC, 14-Leads, Body 8.65x3.90mm, Pitch 1.27mm, IPC Low Density)
pins on every part: 4 VCC+ (power), 11 VCC- (power)
part A pins: 1 OUT1 (out), 2 IN1- (in), 3 IN1+ (in)
part B pins: 5 IN2+ (in), 6 IN2- (in), 7 OUT2 (out)
part C pins: 8 OUT3 (out), 9 IN3- (in), 10 IN3+ (in)
part D pins: 12 IN4+ (in), 13 IN4- (in), 14 OUT4 (out)

## TL034IDE4
designator U?
Quad Enhanced JFET Low-Power Precision Operational Amplifier, 10 to 30 V, -40 to 85 degC, 14-pin SOIC (D14), Green (RoHS & no Sb/Br); Manufacturer: Texas Instruments; PartNumber: TL034IDE4; CMRR(Min)(dB): 75; GBW(Typ)(MHz): 1.1; IIB(Max)(pA): 200; Iq per channel(Max)(mA): 0.28; Number of Channels: 4; Offset Drift(Typ)(uV/C): 12; Rating: Military; Slew Rate(Typ)(V/us): 5.1; Sub Family: General Purpose Amplifier, High Supply Voltage Amplifier (>=30V), Low Power Amp (<=500uA); Total Supply Voltage(Max)(+5V is 5, +/-5V is 10): 30; Total Supply Voltage(Min)(+5V is 5, +/-5V is 10): 10; Vn at 1kHz(Typ)(nV/rtHz): 43; DatasheetVersion: SLOS180C; PackageVersion: 4040047-5/M, 06/2011; PackageReference: D14; PackageDescription: 14-Pin Plastic Small Outline, Body 8.65 x 3.90 mm, Pitch 1.27 mm; Supplier 1: Digi-Key; Supplier Part Number 1: TL034IDE4-ND; Supplier 2: Mouser; Supplier Part Number 2: 595-TL034IDE4; Eco-Plan: Green (RoHS & no Sb/Br); Vio (25C)(Max)(mV): 4; Mounting Technology: Surface Mount; Code_JEDEC: MS-012; ComponentLink1Description: Manufacturer URL; ComponentLink1URL: http://www.ti.com/; ComponentLink2Description: Datasheet; ComponentLink2URL: http://www.ti.com/lit/ds/symlink/tl034.pdf; ComponentLink3Description: Package Specification; ComponentLink3URL: http://www.ti.com/lit/ml/mpds177g/mpds177g.pdf
footprint TI-D14_N (SOIC, 14-Leads, Body 8.65x3.90mm, Pitch 1.27mm, IPC Medium Density)
footprint TI-D14_L (SOIC, 14-Leads, Body 8.65x3.90mm, Pitch 1.27mm, IPC High Density)
footprint TI-D14_M (SOIC, 14-Leads, Body 8.65x3.90mm, Pitch 1.27mm, IPC Low Density)
pins on every part: 4 VCC+ (power), 11 VCC- (power)
part A pins: 1 OUT1 (out), 2 IN1- (in), 3 IN1+ (in)
part B pins: 5 IN2+ (in), 6 IN2- (in), 7 OUT2 (out)
part C pins: 8 OUT3 (out), 9 IN3- (in), 10 IN3+ (in)
part D pins: 12 IN4+ (in), 13 IN4- (in), 14 OUT4 (out)

## TL034IDG4
designator U?
Quad Enhanced JFET Low-Power Precision Operational Amplifier, 10 to 30 V, -40 to 85 degC, 14-pin SOIC (D14), Green (RoHS & no Sb/Br); Manufacturer: Texas Instruments; PartNumber: TL034IDG4; CMRR(Min)(dB): 75; GBW(Typ)(MHz): 1.1; IIB(Max)(pA): 200; Iq per channel(Max)(mA): 0.28; Number of Channels: 4; Offset Drift(Typ)(uV/C): 12; Rating: Military; Slew Rate(Typ)(V/us): 5.1; Sub Family: General Purpose Amplifier, High Supply Voltage Amplifier (>=30V), Low Power Amp (<=500uA); Total Supply Voltage(Max)(+5V is 5, +/-5V is 10): 30; Total Supply Voltage(Min)(+5V is 5, +/-5V is 10): 10; Vn at 1kHz(Typ)(nV/rtHz): 43; DatasheetVersion: SLOS180C; PackageVersion: 4040047-5/M, 06/2011; PackageReference: D14; PackageDescription: 14-Pin Plastic Small Outline, Body 8.65 x 3.90 mm, Pitch 1.27 mm; Supplier 1: Digi-Key; Supplier Part Number 1: TL034IDG4-ND; Supplier 2: Mouser; Supplier Part Number 2: 595-TL034IDG4; Eco-Plan: Green (RoHS & no Sb/Br); Vio (25C)(Max)(mV): 4; Mounting Technology: Surface Mount; Code_JEDEC: MS-012; ComponentLink1Description: Manufacturer URL; ComponentLink1URL: http://www.ti.com/; ComponentLink2Description: Datasheet; ComponentLink2URL: http://www.ti.com/lit/ds/symlink/tl034.pdf; ComponentLink3Description: Package Specification; ComponentLink3URL: http://www.ti.com/lit/ml/mpds177g/mpds177g.pdf
footprint TI-D14_N (SOIC, 14-Leads, Body 8.65x3.90mm, Pitch 1.27mm, IPC Medium Density)
footprint TI-D14_L (SOIC, 14-Leads, Body 8.65x3.90mm, Pitch 1.27mm, IPC High Density)
footprint TI-D14_M (SOIC, 14-Leads, Body 8.65x3.90mm, Pitch 1.27mm, IPC Low Density)
pins on every part: 4 VCC+ (power), 11 VCC- (power)
part A pins: 1 OUT1 (out), 2 IN1- (in), 3 IN1+ (in)
part B pins: 5 IN2+ (in), 6 IN2- (in), 7 OUT2 (out)
part C pins: 8 OUT3 (out), 9 IN3- (in), 10 IN3+ (in)
part D pins: 12 IN4+ (in), 13 IN4- (in), 14 OUT4 (out)

## TL034IDR
designator U?
Quad Enhanced JFET Low-Power Precision Operational Amplifier, 10 to 30 V, -40 to 85 degC, 14-pin SOIC (D14), Green (RoHS & no Sb/Br); Manufacturer: Texas Instruments; PartNumber: TL034IDR; CMRR(Min)(dB): 75; GBW(Typ)(MHz): 1.1; IIB(Max)(pA): 200; Iq per channel(Max)(mA): 0.28; Number of Channels: 4; Offset Drift(Typ)(uV/C): 12; Rating: Military; Slew Rate(Typ)(V/us): 5.1; Sub Family: General Purpose Amplifier, High Supply Voltage Amplifier (>=30V), Low Power Amp (<=500uA); Total Supply Voltage(Max)(+5V is 5, +/-5V is 10): 30; Total Supply Voltage(Min)(+5V is 5, +/-5V is 10): 10; Vn at 1kHz(Typ)(nV/rtHz): 43; DatasheetVersion: SLOS180C; PackageVersion: 4040047-5/M, 06/2011; PackageReference: D14; PackageDescription: 14-Pin Plastic Small Outline, Body 8.65 x 3.90 mm, Pitch 1.27 mm; Supplier 1: Digi-Key; Supplier Part Number 1: 296-29864-2-ND; Supplier 2: Digi-Key; Supplier Part Number 2: 296-29864-1-ND; Supplier 3: Digi-Key; Supplier Part Number 3: 296-29864-6-ND; Supplier 4: Mouser; Supplier Part Number 4: 595-TL034IDR; Eco-Plan: Green (RoHS & no Sb/Br); Vio (25C)(Max)(mV): 4; Mounting Technology: Surface Mount; Code_JEDEC: MS-012; ComponentLink1Description: Manufacturer URL; ComponentLink1URL: http://www.ti.com/; ComponentLink2Description: Datasheet; ComponentLink2URL: http://www.ti.com/lit/ds/symlink/tl034.pdf; ComponentLink3Description: Package Specification; ComponentLink3URL: http://www.ti.com/lit/ml/mpds177g/mpds177g.pdf
footprint TI-D14_N (SOIC, 14-Leads, Body 8.65x3.90mm, Pitch 1.27mm, IPC Medium Density)
footprint TI-D14_L (SOIC, 14-Leads, Body 8.65x3.90mm, Pitch 1.27mm, IPC High Density)
footprint TI-D14_M (SOIC, 14-Leads, Body 8.65x3.90mm, Pitch 1.27mm, IPC Low Density)
pins on every part: 4 VCC+ (power), 11 VCC- (power)
part A pins: 1 OUT1 (out), 2 IN1- (in), 3 IN1+ (in)
part B pins: 5 IN2+ (in), 6 IN2- (in), 7 OUT2 (out)
part C pins: 8 OUT3 (out), 9 IN3- (in), 10 IN3+ (in)
part D pins: 12 IN4+ (in), 13 IN4- (in), 14 OUT4 (out)

## TL034IDRG4
designator U?
Quad Enhanced JFET Low-Power Precision Operational Amplifier, 10 to 30 V, -40 to 85 degC, 14-pin SOIC (D14), Green (RoHS & no Sb/Br); Manufacturer: Texas Instruments; PartNumber: TL034IDRG4; CMRR(Min)(dB): 75; GBW(Typ)(MHz): 1.1; IIB(Max)(pA): 200; Iq per channel(Max)(mA): 0.28; Number of Channels: 4; Offset Drift(Typ)(uV/C): 12; Rating: Military; Slew Rate(Typ)(V/us): 5.1; Sub Family: General Purpose Amplifier, High Supply Voltage Amplifier (>=30V), Low Power Amp (<=500uA); Total Supply Voltage(Max)(+5V is 5, +/-5V is 10): 30; Total Supply Voltage(Min)(+5V is 5, +/-5V is 10): 10; Vn at 1kHz(Typ)(nV/rtHz): 43; DatasheetVersion: SLOS180C; PackageVersion: 4040047-5/M, 06/2011; PackageReference: D14; PackageDescription: 14-Pin Plastic Small Outline, Body 8.65 x 3.90 mm, Pitch 1.27 mm; Supplier 1: Digi-Key; Supplier Part Number 1: TL034IDRG4-ND; Supplier 2: Mouser; Supplier Part Number 2: 595-TL034IDRG4; Eco-Plan: Green (RoHS & no Sb/Br); Vio (25C)(Max)(mV): 4; Mounting Technology: Surface Mount; Code_JEDEC: MS-012; ComponentLink1Description: Manufacturer URL; ComponentLink1URL: http://www.ti.com/; ComponentLink2Description: Datasheet; ComponentLink2URL: http://www.ti.com/lit/ds/symlink/tl034.pdf; ComponentLink3Description: Package Specification; ComponentLink3URL: http://www.ti.com/lit/ml/mpds177g/mpds177g.pdf
footprint TI-D14_N (SOIC, 14-Leads, Body 8.65x3.90mm, Pitch 1.27mm, IPC Medium Density)
footprint TI-D14_L (SOIC, 14-Leads, Body 8.65x3.90mm, Pitch 1.27mm, IPC High Density)
footprint TI-D14_M (SOIC, 14-Leads, Body 8.65x3.90mm, Pitch 1.27mm, IPC Low Density)
pins on every part: 4 VCC+ (power), 11 VCC- (power)
part A pins: 1 OUT1 (out), 2 IN1- (in), 3 IN1+ (in)
part B pins: 5 IN2+ (in), 6 IN2- (in), 7 OUT2 (out)
part C pins: 8 OUT3 (out), 9 IN3- (in), 10 IN3+ (in)
part D pins: 12 IN4+ (in), 13 IN4- (in), 14 OUT4 (out)

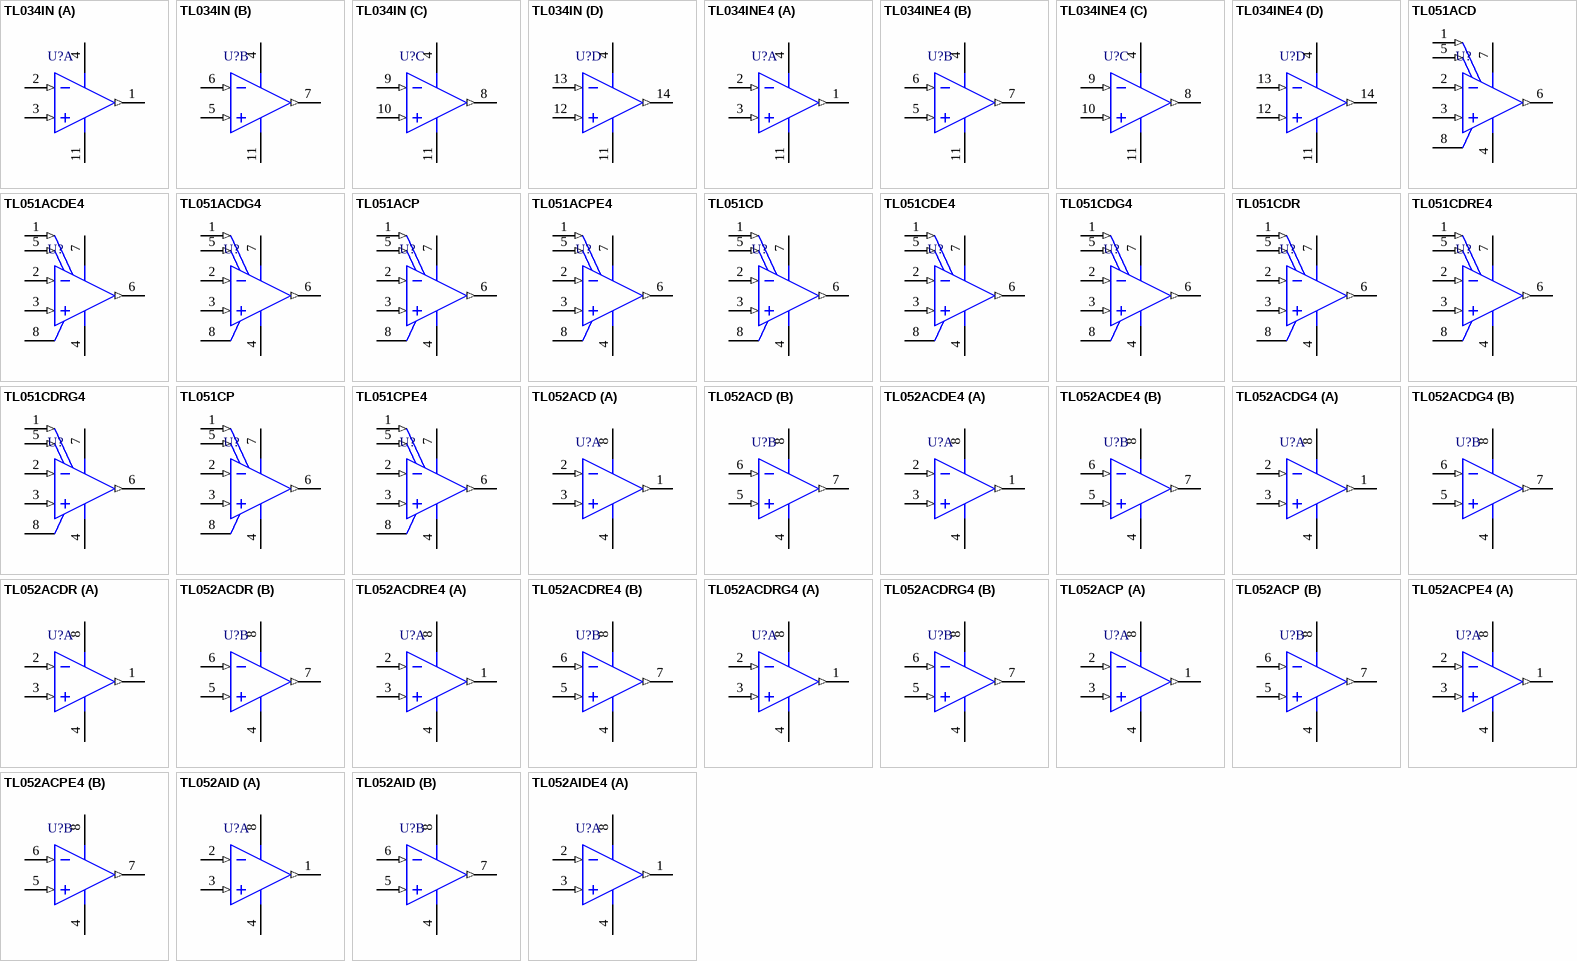
[diagram p22: symbols TL034IN to TL052AIDE4]

## TL034IN
designator U?
Quad Enhanced JFET Low-Power Precision Operational Amplifier, 10 to 30 V, -40 to 85 degC, 14-pin DIP (N14), Pb-Free (RoHS); Manufacturer: Texas Instruments; PartNumber: TL034IN; CMRR(Min)(dB): 75; GBW(Typ)(MHz): 1.1; IIB(Max)(pA): 200; Iq per channel(Max)(mA): 0.28; Number of Channels: 4; Offset Drift(Typ)(uV/C): 12; Rating: Military; Slew Rate(Typ)(V/us): 5.1; Sub Family: General Purpose Amplifier, High Supply Voltage Amplifier (>=30V), Low Power Amp (<=500uA); Total Supply Voltage(Max)(+5V is 5, +/-5V is 10): 30; Total Supply Voltage(Min)(+5V is 5, +/-5V is 10): 10; Vn at 1kHz(Typ)(nV/rtHz): 43; DatasheetVersion: SLOS180C; PackageVersion: 4040049/E, 12/2002; PackageReference: N14; PackageDescription: 14-Pin Plastic In-Line, Body 19.305 x 6.35 mm, Pitch 2.54 mm; Supplier 1: Digi-Key; Supplier Part Number 1: 296-34249-5-ND; Supplier 2: Farnell; Supplier Part Number 2: 1459675; Supplier 3: Mouser; Supplier Part Number 3: 595-TL034IN; Eco-Plan: Pb-Free (RoHS); Vio (25C)(Max)(mV): 4; Mounting Technology: Through Hole; Code_JEDEC: MS-001; ComponentLink1Description: Manufacturer URL; ComponentLink1URL: http://www.ti.com/; ComponentLink2Description: Datasheet; ComponentLink2URL: http://www.ti.com/lit/ds/symlink/tl034.pdf; ComponentLink3Description: Package Specification; ComponentLink3URL: http://www.ti.com/lit/ml/mpdi002c/mpdi002c.pdf
footprint TI-N14 (DIP, 14-Leads, Body 19.305x6.35 mm, Pitch 2.54 mm)
pins on every part: 4 VCC+ (power), 11 VCC- (power)
part A pins: 1 OUT1 (out), 2 IN1- (in), 3 IN1+ (in)
part B pins: 5 IN2+ (in), 6 IN2- (in), 7 OUT2 (out)
part C pins: 8 OUT3 (out), 9 IN3- (in), 10 IN3+ (in)
part D pins: 12 IN4+ (in), 13 IN4- (in), 14 OUT4 (out)

## TL034INE4
designator U?
Quad Enhanced JFET Low-Power Precision Operational Amplifier, 10 to 30 V, -40 to 85 degC, 14-pin DIP (N14), Pb-Free (RoHS); Manufacturer: Texas Instruments; PartNumber: TL034INE4; CMRR(Min)(dB): 75; GBW(Typ)(MHz): 1.1; IIB(Max)(pA): 200; Iq per channel(Max)(mA): 0.28; Number of Channels: 4; Offset Drift(Typ)(uV/C): 12; Rating: Military; Slew Rate(Typ)(V/us): 5.1; Sub Family: General Purpose Amplifier, High Supply Voltage Amplifier (>=30V), Low Power Amp (<=500uA); Total Supply Voltage(Max)(+5V is 5, +/-5V is 10): 30; Total Supply Voltage(Min)(+5V is 5, +/-5V is 10): 10; Vn at 1kHz(Typ)(nV/rtHz): 43; DatasheetVersion: SLOS180C; PackageVersion: 4040049/E, 12/2002; PackageReference: N14; PackageDescription: 14-Pin Plastic In-Line, Body 19.305 x 6.35 mm, Pitch 2.54 mm; Supplier 1: Digi-Key; Supplier Part Number 1: TL034INE4-ND; Supplier 2: Mouser; Supplier Part Number 2: 595-TL034INE4; Eco-Plan: Pb-Free (RoHS); Vio (25C)(Max)(mV): 4; Mounting Technology: Through Hole; Code_JEDEC: MS-001; ComponentLink1Description: Manufacturer URL; ComponentLink1URL: http://www.ti.com/; ComponentLink2Description: Datasheet; ComponentLink2URL: http://www.ti.com/lit/ds/symlink/tl034.pdf; ComponentLink3Description: Package Specification; ComponentLink3URL: http://www.ti.com/lit/ml/mpdi002c/mpdi002c.pdf
footprint TI-N14 (DIP, 14-Leads, Body 19.305x6.35 mm, Pitch 2.54 mm)
pins on every part: 4 VCC+ (power), 11 VCC- (power)
part A pins: 1 OUT1 (out), 2 IN1- (in), 3 IN1+ (in)
part B pins: 5 IN2+ (in), 6 IN2- (in), 7 OUT2 (out)
part C pins: 8 OUT3 (out), 9 IN3- (in), 10 IN3+ (in)
part D pins: 12 IN4+ (in), 13 IN4- (in), 14 OUT4 (out)

## TL051ACD
designator U?
Enhanced JFET Precision Operational Amplifier, 10 to 30 V, 0 to 70 degC, 8-pin SOIC (D8), Green (RoHS & no Sb/Br); Manufacturer: Texas Instruments; PartNumber: TL051ACD; CMRR(Min)(dB): 75; GBW(Typ)(MHz): 3.1; IIB(Max)(pA): 200; Iq per channel(Max)(mA): 3.2; Number of Channels: 1; Offset Drift(Typ)(uV/C): 8; Rating: Catalog; Slew Rate(Typ)(V/us): 20; Sub Family: General Purpose Amplifier, High Supply Voltage Amplifier (>=30V); Total Supply Voltage(Max)(+5V is 5, +/-5V is 10): 30; Total Supply Voltage(Min)(+5V is 5, +/-5V is 10): 10; Vio (25C)(Max)(mV): 0.8; Vn at 1kHz(Typ)(nV/rtHz): 18; DatasheetVersion: SLOS178A; PackageVersion: 4040047-3/M, 06/2011; PackageReference: D8; PackageDescription: 8-Pin Plastic Small Outline, Body 4.9 x 3.9 mm, Pitch 1.27 mm; Supplier 1: Digi-Key; Supplier Part Number 1: 296-34250-5-ND; Supplier 2: Farnell; Supplier Part Number 2: 1459676; Supplier 3: Newark; Supplier Part Number 3: 62M0563; Supplier 4: Mouser; Supplier Part Number 4: 595-TL051ACD; Eco-Plan: Green (RoHS & no Sb/Br); Mounting Technology: Surface Mount; Code_JEDEC: MS-012; ComponentLink1Description: Manufacturer URL; ComponentLink1URL: http://www.ti.com/; ComponentLink2Description: Datasheet; ComponentLink2URL: http://www.ti.com/lit/ds/symlink/tl051a.pdf; ComponentLink3Description: Package Specification; ComponentLink3URL: http://www.ti.com/litv/pdf/msoi002j
footprint TI-D8_N (SOIC, 8-Leads, Body 4.9x3.9mm, Pitch 1.27mm, IPC Medium Density)
footprint TI-D8_L (SOIC, 8-Leads, Body 4.9x3.9mm, Pitch 1.27mm, IPC High Density)
footprint TI-D8_M (SOIC, 8-Leads, Body 4.9x3.9mm, Pitch 1.27mm, IPC Low Density)
pins: 1 OFFSET N1 (in), 2 IN- (in), 3 IN+ (in), 4 VCC- (power), 5 OFFSET N2 (in), 6 OUT (out), 7 VCC+ (power), 8 NC

## TL051ACDE4
designator U?
Enhanced JFET Precision Operational Amplifier, 10 to 30 V, 0 to 70 degC, 8-pin SOIC (D8), Green (RoHS & no Sb/Br); Manufacturer: Texas Instruments; PartNumber: TL051ACDE4; CMRR(Min)(dB): 75; GBW(Typ)(MHz): 3.1; IIB(Max)(pA): 200; Iq per channel(Max)(mA): 3.2; Number of Channels: 1; Offset Drift(Typ)(uV/C): 8; Rating: Catalog; Slew Rate(Typ)(V/us): 20; Sub Family: General Purpose Amplifier, High Supply Voltage Amplifier (>=30V); Total Supply Voltage(Max)(+5V is 5, +/-5V is 10): 30; Total Supply Voltage(Min)(+5V is 5, +/-5V is 10): 10; Vio (25C)(Max)(mV): 0.8; Vn at 1kHz(Typ)(nV/rtHz): 18; DatasheetVersion: SLOS178A; PackageVersion: 4040047-3/M, 06/2011; PackageReference: D8; PackageDescription: 8-Pin Plastic Small Outline, Body 4.9 x 3.9 mm, Pitch 1.27 mm; Supplier 1: Digi-Key; Supplier Part Number 1: TL051ACDE4-ND; Supplier 2: Mouser; Supplier Part Number 2: 595-TL051ACDE4; Eco-Plan: Green (RoHS & no Sb/Br); Mounting Technology: Surface Mount; Code_JEDEC: MS-012; ComponentLink1Description: Manufacturer URL; ComponentLink1URL: http://www.ti.com/; ComponentLink2Description: Datasheet; ComponentLink2URL: http://www.ti.com/lit/ds/symlink/tl051a.pdf; ComponentLink3Description: Package Specification; ComponentLink3URL: http://www.ti.com/litv/pdf/msoi002j
footprint TI-D8_N (SOIC, 8-Leads, Body 4.9x3.9mm, Pitch 1.27mm, IPC Medium Density)
footprint TI-D8_L (SOIC, 8-Leads, Body 4.9x3.9mm, Pitch 1.27mm, IPC High Density)
footprint TI-D8_M (SOIC, 8-Leads, Body 4.9x3.9mm, Pitch 1.27mm, IPC Low Density)
pins: 1 OFFSET N1 (in), 2 IN- (in), 3 IN+ (in), 4 VCC- (power), 5 OFFSET N2 (in), 6 OUT (out), 7 VCC+ (power), 8 NC

## TL051ACDG4
designator U?
Enhanced JFET Precision Operational Amplifier, 10 to 30 V, 0 to 70 degC, 8-pin SOIC (D8), Green (RoHS & no Sb/Br); Manufacturer: Texas Instruments; PartNumber: TL051ACDG4; CMRR(Min)(dB): 75; GBW(Typ)(MHz): 3.1; IIB(Max)(pA): 200; Iq per channel(Max)(mA): 3.2; Number of Channels: 1; Offset Drift(Typ)(uV/C): 8; Rating: Catalog; Slew Rate(Typ)(V/us): 20; Sub Family: General Purpose Amplifier, High Supply Voltage Amplifier (>=30V); Total Supply Voltage(Max)(+5V is 5, +/-5V is 10): 30; Total Supply Voltage(Min)(+5V is 5, +/-5V is 10): 10; Vio (25C)(Max)(mV): 0.8; Vn at 1kHz(Typ)(nV/rtHz): 18; DatasheetVersion: SLOS178A; PackageVersion: 4040047-3/M, 06/2011; PackageReference: D8; PackageDescription: 8-Pin Plastic Small Outline, Body 4.9 x 3.9 mm, Pitch 1.27 mm; Supplier 1: Digi-Key; Supplier Part Number 1: TL051ACDG4-ND; Supplier 2: Mouser; Supplier Part Number 2: 595-TL051ACDG4; Eco-Plan: Green (RoHS & no Sb/Br); Mounting Technology: Surface Mount; Code_JEDEC: MS-012; ComponentLink1Description: Manufacturer URL; ComponentLink1URL: http://www.ti.com/; ComponentLink2Description: Datasheet; ComponentLink2URL: http://www.ti.com/lit/ds/symlink/tl051a.pdf; ComponentLink3Description: Package Specification; ComponentLink3URL: http://www.ti.com/litv/pdf/msoi002j
footprint TI-D8_N (SOIC, 8-Leads, Body 4.9x3.9mm, Pitch 1.27mm, IPC Medium Density)
footprint TI-D8_L (SOIC, 8-Leads, Body 4.9x3.9mm, Pitch 1.27mm, IPC High Density)
footprint TI-D8_M (SOIC, 8-Leads, Body 4.9x3.9mm, Pitch 1.27mm, IPC Low Density)
pins: 1 OFFSET N1 (in), 2 IN- (in), 3 IN+ (in), 4 VCC- (power), 5 OFFSET N2 (in), 6 OUT (out), 7 VCC+ (power), 8 NC

## TL051ACP
designator U?
Enhanced JFET Precision Operational Amplifier, 10 to 30 V, 0 to 70 degC, 8-pin DIP (P8), Pb-Free (RoHS); Manufacturer: Texas Instruments; PartNumber: TL051ACP; CMRR(Min)(dB): 75; GBW(Typ)(MHz): 3.1; IIB(Max)(pA): 200; Iq per channel(Max)(mA): 3.2; Number of Channels: 1; Offset Drift(Typ)(uV/C): 8; Rating: Catalog; Slew Rate(Typ)(V/us): 20; Sub Family: General Purpose Amplifier, High Supply Voltage Amplifier (>=30V); Total Supply Voltage(Max)(+5V is 5, +/-5V is 10): 30; Total Supply Voltage(Min)(+5V is 5, +/-5V is 10): 10; Vio (25C)(Max)(mV): 0.8; Vn at 1kHz(Typ)(nV/rtHz): 18; DatasheetVersion: SLOS178A; PackageVersion: 4040082/E, 04/2010; PackageReference: P8; PackageDescription: 8-Pin Plastic In-Line, Body 9.59 x 6.35 mm, Pitch 2.54 mm; Supplier 1: Digi-Key; Supplier Part Number 1: 296-11821-5-ND; Supplier 2: Mouser; Supplier Part Number 2: 595-TL051ACP; Eco-Plan: Pb-Free (RoHS); Mounting Technology: Through Hole; Code_JEDEC: MS-001; ComponentLink1Description: Manufacturer URL; ComponentLink1URL: http://www.ti.com/; ComponentLink2Description: Datasheet; ComponentLink2URL: http://www.ti.com/lit/ds/symlink/tl051a.pdf; ComponentLink3Description: Package Specification; ComponentLink3URL: http://www.ti.com/litv/pdf/mpdi001b
footprint TI-P8 (DIP, 8-Leads, Body 9.59x6.35mm, Pitch 2.54mm)
pins: 1 OFFSET N1 (in), 2 IN- (in), 3 IN+ (in), 4 VCC- (power), 5 OFFSET N2 (in), 6 OUT (out), 7 VCC+ (power), 8 NC

## TL051ACPE4
designator U?
Enhanced JFET Precision Operational Amplifier, 10 to 30 V, 0 to 70 degC, 8-pin DIP (P8), Pb-Free (RoHS); Manufacturer: Texas Instruments; PartNumber: TL051ACPE4; CMRR(Min)(dB): 75; GBW(Typ)(MHz): 3.1; IIB(Max)(pA): 200; Iq per channel(Max)(mA): 3.2; Number of Channels: 1; Offset Drift(Typ)(uV/C): 8; Rating: Catalog; Slew Rate(Typ)(V/us): 20; Sub Family: General Purpose Amplifier, High Supply Voltage Amplifier (>=30V); Total Supply Voltage(Max)(+5V is 5, +/-5V is 10): 30; Total Supply Voltage(Min)(+5V is 5, +/-5V is 10): 10; Vio (25C)(Max)(mV): 0.8; Vn at 1kHz(Typ)(nV/rtHz): 18; DatasheetVersion: SLOS178A; PackageVersion: 4040082/E, 04/2010; PackageReference: P8; PackageDescription: 8-Pin Plastic In-Line, Body 9.59 x 6.35 mm, Pitch 2.54 mm; Supplier 1: Digi-Key; Supplier Part Number 1: TL051ACPE4-ND; Supplier 2: Mouser; Supplier Part Number 2: 595-TL051ACPE4; Eco-Plan: Pb-Free (RoHS); Mounting Technology: Through Hole; Code_JEDEC: MS-001; ComponentLink1Description: Manufacturer URL; ComponentLink1URL: http://www.ti.com/; ComponentLink2Description: Datasheet; ComponentLink2URL: http://www.ti.com/lit/ds/symlink/tl051a.pdf; ComponentLink3Description: Package Specification; ComponentLink3URL: http://www.ti.com/litv/pdf/mpdi001b
footprint TI-P8 (DIP, 8-Leads, Body 9.59x6.35mm, Pitch 2.54mm)
pins: 1 OFFSET N1 (in), 2 IN- (in), 3 IN+ (in), 4 VCC- (power), 5 OFFSET N2 (in), 6 OUT (out), 7 VCC+ (power), 8 NC